# Altium schematic symbol library ECS-80-S-4X.SchLib: 1 symbol
Pins are listed as number, name and electrical type; pins without a type are passive.

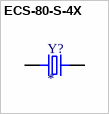
[diagram p0: symbol ECS-80-S-4X]

## ECS-80-S-4X
designator Y?
CRYSTAL T/H; MP: ECS-80-S-4X; Package: None; Price: None; Value: *; Availability: Unavailable
footprint XTAL_ECS-80-S-4X
pins: 1, 2